# Altium schematic symbol library SCH - AMP AUDIO - ANALOG SSM2166S.SchLib: 1 symbol
Pins are listed as number, name and electrical type; pins without a type are passive.

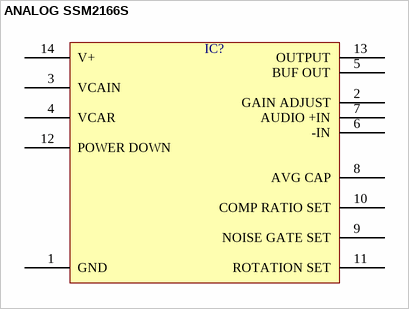
[diagram p0: symbol ANALOG SSM2166S]

## ANALOG SSM2166S
designator IC?  (value not drawn)
pins: 1 GND, 2 GAIN ADJUST, 3 VCAIN, 4 VCAR, 5 BUF OUT, 6 -IN, 7 AUDIO +IN, 8 AVG CAP, 9 NOISE GATE SET, 10 COMP RATIO SET, 11 ROTATION SET, 12 POWER DOWN, 13 OUTPUT, 14 V+